# EAGLE library part 9DBL02*2 (library Renesas)
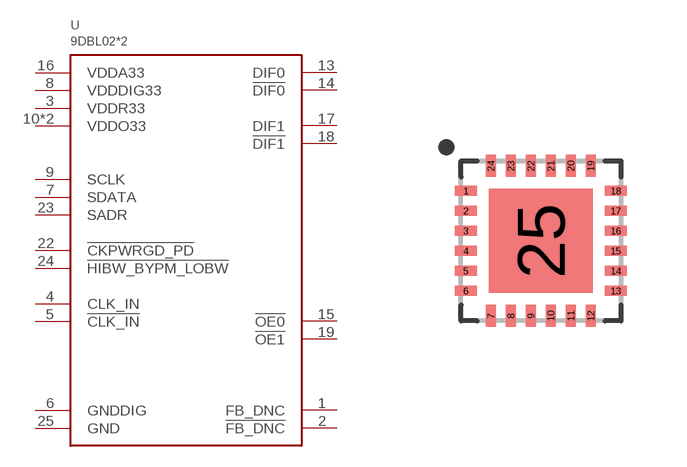
[diagram p8: symbol with the pads of QFN24; footprint QFN24]

Designator prefix U

## 9DBL0242, 9DBL0252  [QFN24]
1  FB_DNC
2  !FB_DNC
3  VDDR33
4  CLK_IN
5  !CLK_IN
6  GNDDIG
7  SDATA
8  VDDDIG33
9  SCLK
10  VDDO33
13  DIF0
14  !DIF0
15  !OE0
16  VDDA33
17  DIF1
18  !DIF1
19  !OE1
21  VDDO33
22  !CKPWRGD_PD
23  SADR
24  !HIBW_BYPM_LOBW
25  GND

## Footprint QFN24 (pad centres in mm)
smd 0.55 x 0.25: 1 -1.875,1.25; 2 -1.875,0.75; 3 -1.875,0.25; 4 -1.875,-0.25; 5 -1.875,-0.75; 6 -1.875,-1.25; 13 1.875,-1.25; 14 1.875,-0.75; 15 1.875,-0.25; 16 1.875,0.25; 17 1.875,0.75; 18 1.875,1.25
smd 0.25 x 0.55: 7 -1.25,-1.875; 8 -0.75,-1.875; 9 -0.25,-1.875; 10 0.25,-1.875; 11 0.75,-1.875; 12 1.25,-1.875; 19 1.25,1.875; 20 0.75,1.875; 21 0.25,1.875; 22 -0.25,1.875; 23 -0.75,1.875; 24 -1.25,1.875
smd 2.6 x 2.6: 25 0,0